# EAGLE library part OPA4340 (library burr-brown)
Operational Amplifiers Source: http://focus.ti.com/lit/ds/sbos073/sbos073.pdf
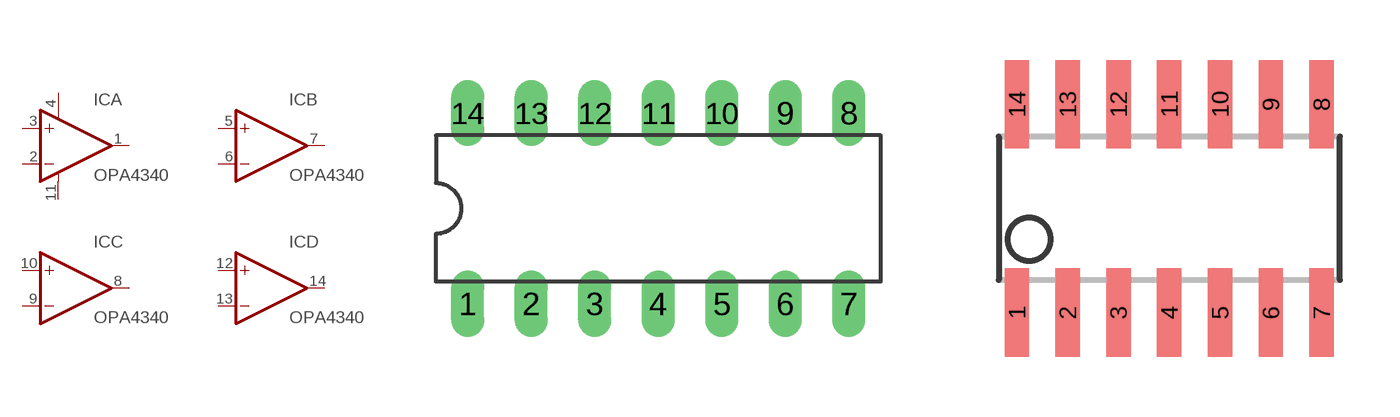
[diagram p95: symbol with the pads of DIL14; footprints DIL14, SO14]

Designator prefix IC; gates A=OP-AMP+- B=OP-AMP C=OP-AMP D=OP-AMP

## OPA4340P (OC_FARNELL: unknown; OC_NEWARK: unknown)  [DIL14]
1  A:OUT  out
2  A:-IN  in
3  A:+IN  in
4  A:V+  pwr
5  B:+IN  in
6  B:-IN  in
7  B:OUT  out
8  C:OUT  out
9  C:-IN  in
10  C:+IN  in
11  A:V-  pwr
12  D:+IN  in
13  D:-IN  in
14  D:OUT  out

## OPA4340U (MF: TEXAS INSTRUMENTS; MPN: OPA4340UA; OC_FARNELL: 1212307; OC_NEWARK: 35C1907)  [SO14]
Pads as for DIL14

## OPA4340E (MPN: OPA4340EA/250G4; OC_FARNELL: 1207061; OC_NEWARK: 67K8209)  [SSOP16BU]
1  A:OUT  out
2  A:-IN  in
3  A:+IN  in
4  A:V+  pwr
5  B:+IN  in
6  B:-IN  in
7  B:OUT  out
10  C:OUT  out
11  C:-IN  in
12  C:+IN  in
13  A:V-  pwr
14  D:+IN  in
15  D:-IN  in
16  D:OUT  out

## Footprint DIL14 (pad centres in mm)
Dual In Line Package
drill 0.813 long: 1 -7.62,-3.81; 2 -5.08,-3.81; 3 -2.54,-3.81; 4 0,-3.81; 5 2.54,-3.81; 6 5.08,-3.81; 7 7.62,-3.81; 8 7.62,3.81; 9 5.08,3.81; 10 2.54,3.81; 11 0,3.81; 12 -2.54,3.81; 13 -5.08,3.81; 14 -7.62,3.81

## Footprint SO14 (pad centres in mm)
Small Outline Package
smd 0.61 x 2.21: 1 -3.81,-2.603; 2 -2.54,-2.603; 3 -1.27,-2.603; 4 0,-2.603; 5 1.27,-2.603; 6 2.54,-2.603; 7 3.81,-2.603; 8 3.81,2.603; 9 2.54,2.603; 10 1.27,2.603; 11 0,2.603; 12 -1.27,2.603; 13 -2.54,2.603; 14 -3.81,2.603

## Footprint SSOP16BU (pad centres in mm)
Small Shrink Outline Package Source: http://focus.ti.com/lit/ml/msoi004e/msoi004e.pdf
smd 0.348 x 1.397: 1 -2.223,-2.619; 2 -1.588,-2.62; 3 -0.953,-2.62; 4 -0.318,-2.62; 5 0.318,-2.62; 6 0.953,-2.62; 7 1.588,-2.62; 8 2.223,-2.62; 9 2.223,2.62; 10 1.588,2.62; 11 0.953,2.62; 12 0.318,2.62; 13 -0.318,2.62; 14 -0.953,2.62; 15 -1.588,2.62; 16 -2.223,2.62